# Altium integrated library DSC1001AL5-100.0000.IntLib: 1 symbol
Pins are listed as number, name and electrical type; pins without a type are passive.

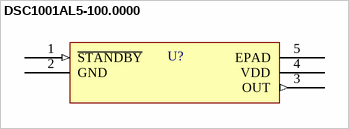
[diagram p0: symbol DSC1001AL5-100.0000]

## DSC1001AL5-100.0000
designator U?
Manufacturer_Part_Number: DSC1001AL5-100.0000; Vendor: Microchip; Built_By: EMA_Jessica; SourceLibrary: Microchip_2019-08-23_22; Copyright: Copyright (C) 2018 Accelerated Designs. All rights reserved; RefDes: RefDes; Type: DEV
footprint DFN4_7X5_MCH
pins: 1 ~{STANDBY} (in), 2 GND, 3 OUT (out), 4 VDD (power), 5 EPAD